# Altium integrated library AEDR-8500-102.IntLib: 1 symbol
Pins are listed as number, name and electrical type; pins without a type are passive.

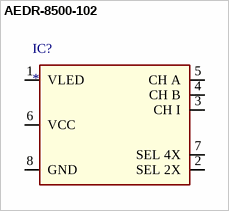
[diagram p0: symbol AEDR-8500-102]

## AEDR-8500-102
designator IC?
ID: AEDR-8500-102; PDF: http://www.avagotech.com/docs/AV02-2790EN; PRICE: 16.52000; BUY_LINK: http://www.digikey.com/product-detail/en/AEDR-8500-102/516-2641-1-ND/3909163
footprint AEDR-8500-102
footprint AEDR-8500-102
pins: 1 VLED, 2 SEL 2X, 3 CH I, 4 CH B, 5 CH A, 6 VCC, 7 SEL 4X, 8 GND